# Altium integrated library Altium Database Library V2.IntLib: 629 symbols (part 5 of 28)

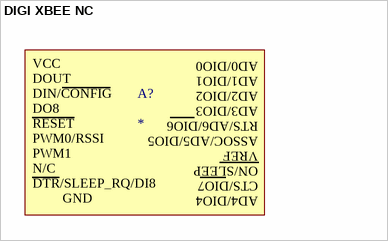
[diagram p92: symbol DIGI XBEE NC]

## DIGI XBEE NC
designator A?
text: AD0/DIO0; VCC; AD1/DIO1; DOUT; AD2/DIO2; DIN/CONFIG; AD3/DIO3; DO8; RTS/AD6/DIO6; RESET; ASSOC/AD5/DIO5; PWM0/RSSI; VREF; PWM1; ON/SLEEP; N/C; CTS/DIO7; DTR/SLEEP_RQ/DI8; AD4/DIO4; GND


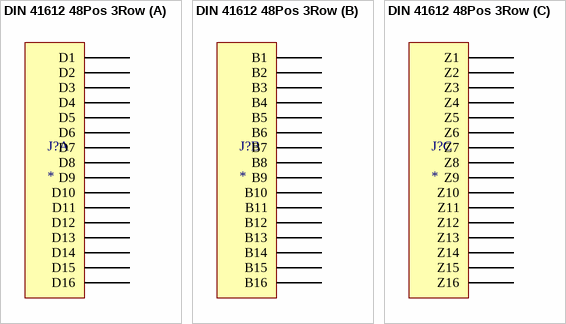
[diagram p93: symbol DIN 41612 48Pos 3Row]

## DIN 41612 48Pos 3Row
designator J?
part A pins: D1, D2, D3, D4, D5, D6, D7, D8, D9, D10, D11, D12, D13, D14, D15, D16
part B pins: B1, B2, B3, B4, B5, B6, B7, B8, B9, B10, B11, B12, B13, B14, B15, B16
part C pins: Z1, Z2, Z3, Z4, Z5, Z6, Z7, Z8, Z9, Z10, Z11, Z12, Z13, Z14, Z15, Z16


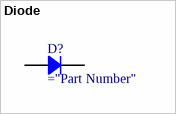
[diagram p94: symbol Diode]

## Diode
designator D?
Rectifier Diode
pins: 1, 2


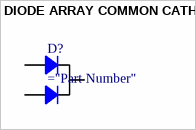
[diagram p95: symbol DIODE ARRAY COMMON CATHODE]

## DIODE ARRAY COMMON CATHODE
designator D?
Rectifier Diode
pins: 1, 2, 3


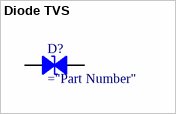
[diagram p96: symbol Diode TVS]

## Diode TVS
designator D?
Zener Diode
pins: 1, 2


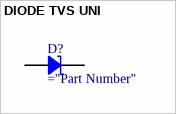
[diagram p97: symbol DIODE TVS UNI]

## DIODE TVS UNI
designator D?
Rectifier Diode
pins: 1, 2


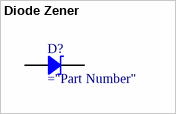
[diagram p98: symbol Diode Zener]

## Diode Zener
designator D?
Zener Diode
pins: 1, 2


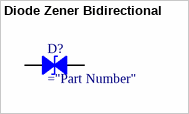
[diagram p99: symbol Diode Zener Bidirectional]

## Diode Zener Bidirectional
designator D?
Bidirectional Zener Diode
pins: 1, 2


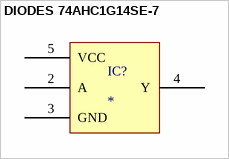
[diagram p100: symbol DIODES 74AHC1G14SE-7]

## DIODES 74AHC1G14SE-7
designator IC?
pins: 2 A, 3 GND, 4 Y, 5 VCC


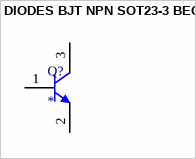
[diagram p101: symbol DIODES BJT NPN SOT23-3 BEC]

## DIODES BJT NPN SOT23-3 BEC
designator Q?
pins: 1 B, 2 E, 3 C


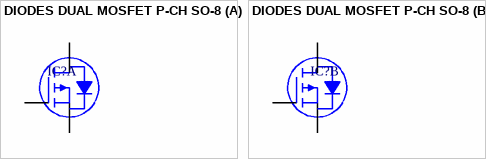
[diagram p102: symbol DIODES DUAL MOSFET P-CH SO-8]

## DIODES DUAL MOSFET P-CH SO-8
designator IC?
part A pins: 1 S1, 2 G1, 7 D1, 8 D1
part B pins: 3 S2, 4 G2, 5 D2, 6 D2


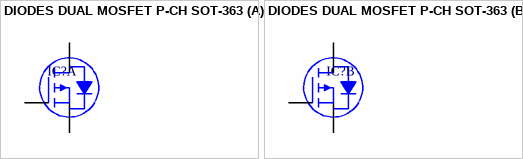
[diagram p103: symbol DIODES DUAL MOSFET P-CH SOT-363]

## DIODES DUAL MOSFET P-CH SOT-363
designator IC?
part A pins: 1 S1, 2 G1, 6 D1
part B pins: 3 D2, 4 S2, 5 G2


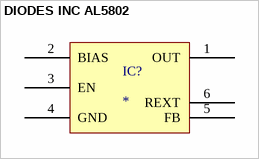
[diagram p104: symbol DIODES INC AL5802]

## DIODES INC AL5802
designator IC?
pins: 1 OUT, 2 BIAS, 3 EN, 4 GND, 5 FB, 6 REXT


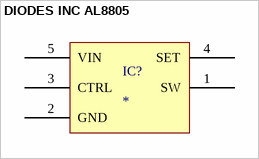
[diagram p105: symbol DIODES INC AL8805]

## DIODES INC AL8805
designator IC?
pins: 1 SW, 2 GND, 3 CTRL, 4 SET, 5 VIN


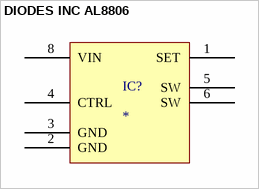
[diagram p106: symbol DIODES INC AL8806]

## DIODES INC AL8806
designator IC?
pins: 1 SET, 2 GND, 3 GND, 4 CTRL, 5 SW, 6 SW, 8 VIN


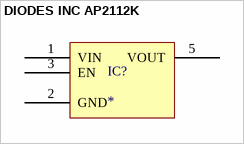
[diagram p107: symbol DIODES INC AP2112K]

## DIODES INC AP2112K
designator IC?
pins: 1 VIN, 2 GND, 3 EN, 5 VOUT


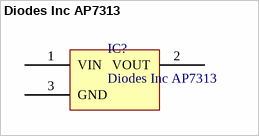
[diagram p108: symbol Diodes Inc AP7313]

## Diodes Inc AP7313
designator IC?
150mA Low quiescent current fast transient low drop out linear regulator
pins: 1 VIN, 2 VOUT, 3 GND


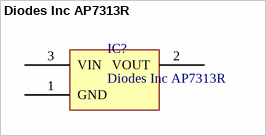
[diagram p109: symbol Diodes Inc AP7313R]

## Diodes Inc AP7313R
designator IC?
150mA Low quiescent current fast transient low drop out linear regulator
pins: 1 GND, 2 VOUT, 3 VIN


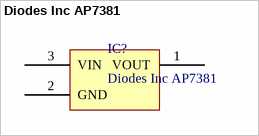
[diagram p110: symbol Diodes Inc AP7381]

## Diodes Inc AP7381
designator IC?
150mA Low quiescent current fast transient low drop out linear regulator
pins: 1 VOUT, 2 GND, 3 VIN


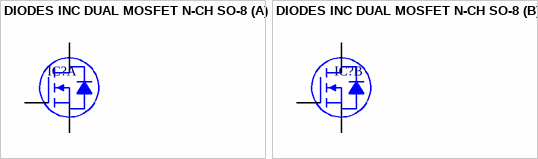
[diagram p111: symbol DIODES INC DUAL MOSFET N-CH SO-8]

## DIODES INC DUAL MOSFET N-CH SO-8
designator IC?
part A pins: 1 S1, 2 G1, 7 D1, 8 D1
part B pins: 3 S2, 4 G2, 5 D2, 6 D2


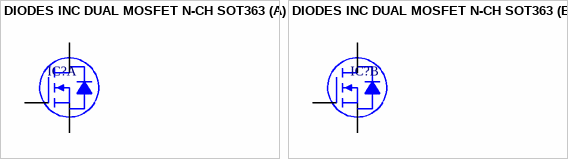
[diagram p112: symbol DIODES INC DUAL MOSFET N-CH SOT363]

## DIODES INC DUAL MOSFET N-CH SOT363
designator IC?
part A pins: 3 D1, 4 S1, 5 G1
part B pins: 1 S2, 2 G2, 6 D2


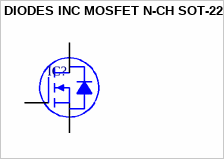
[diagram p113: symbol DIODES INC MOSFET N-CH SOT-223]

## DIODES INC MOSFET N-CH SOT-223
designator IC?
pins: 1 G, 2 D, 3 S, 4 D


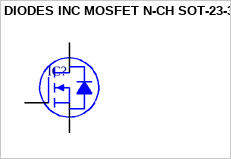
[diagram p114: symbol DIODES INC MOSFET N-CH SOT-23-3]

## DIODES INC MOSFET N-CH SOT-23-3
designator IC?
pins: 1 G, 2 S, 3 D
